# Altium integrated library TI Power Management Step-Down Regulator.IntLib: 531 symbols (part 25 of 32)
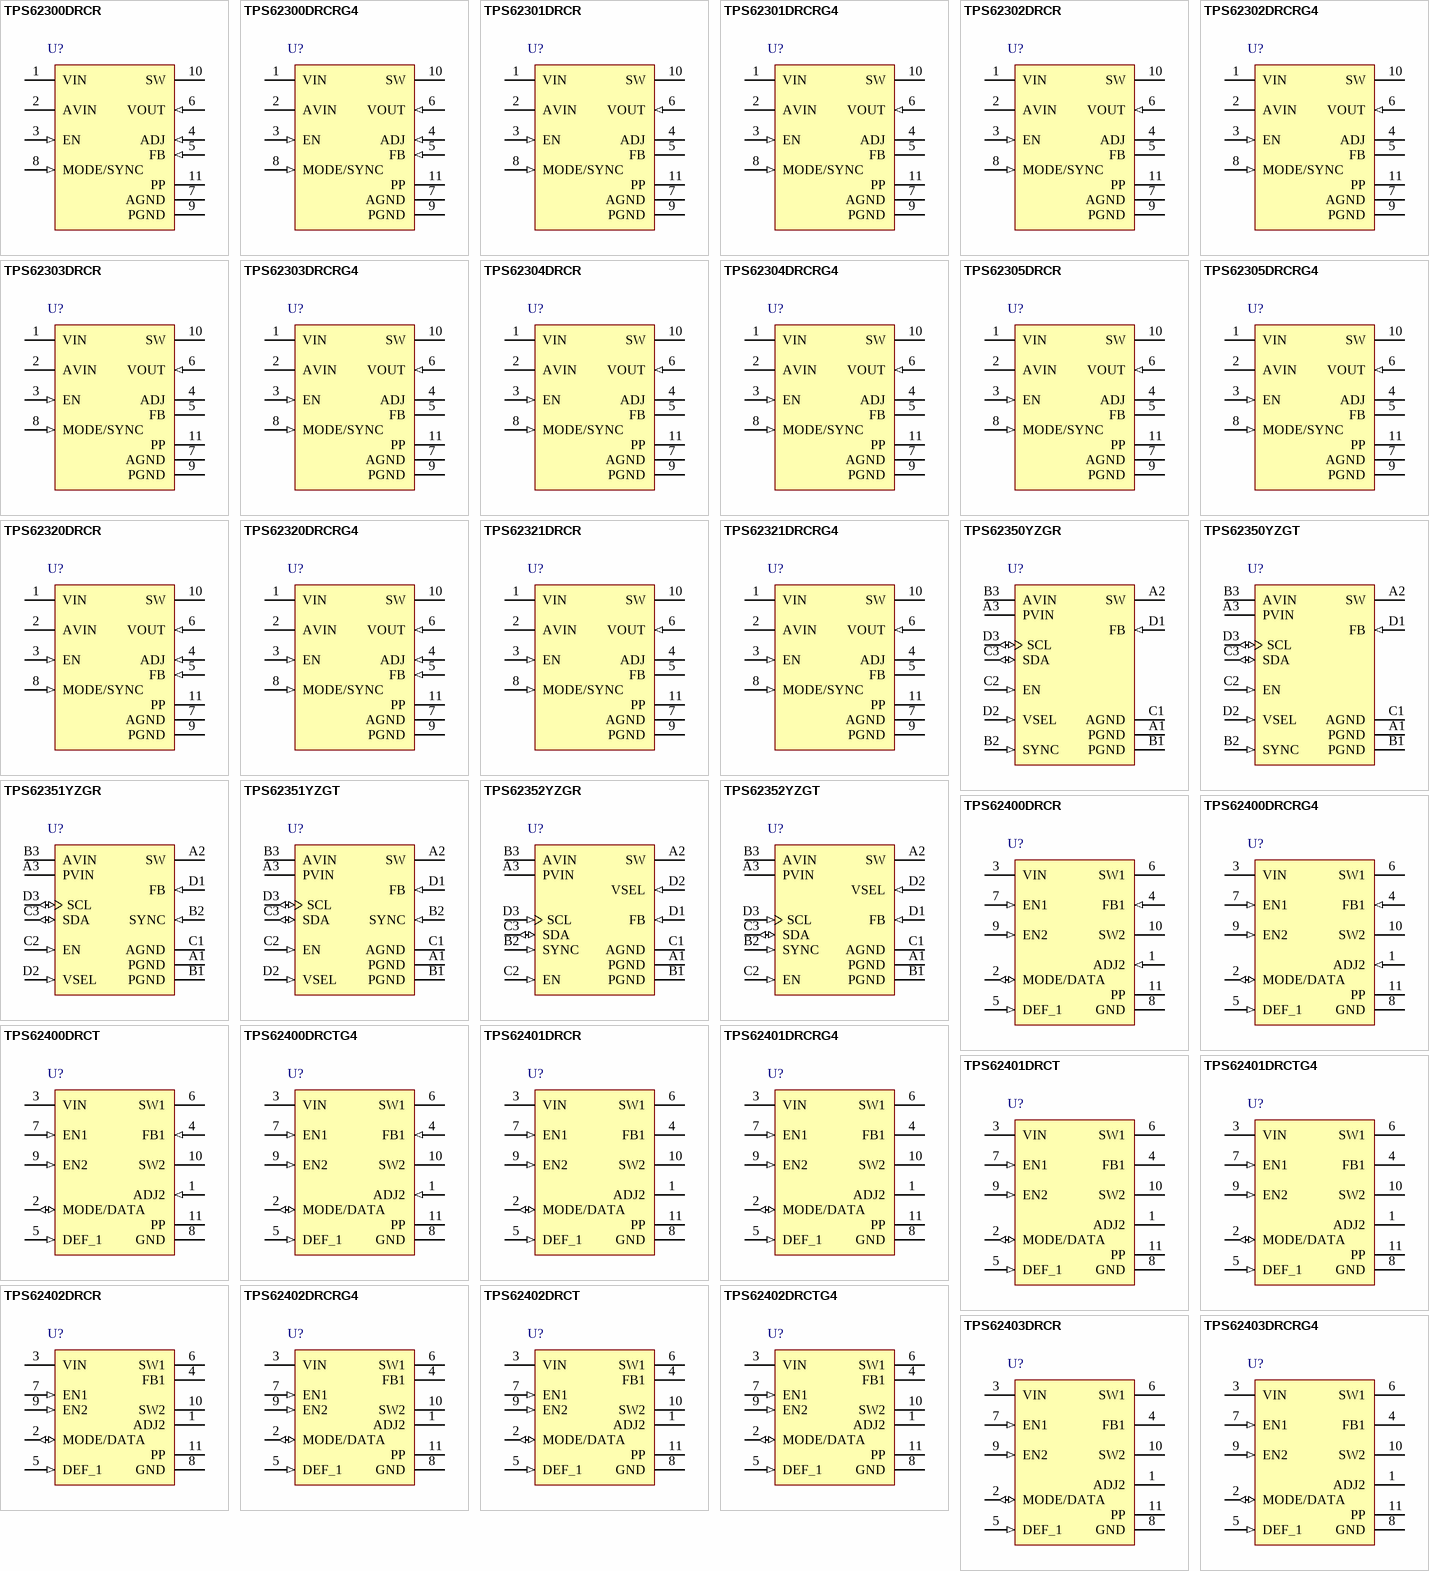
[diagram p42: symbols TPS62300DRCR to TPS62403DRCRG4]

## TPS62401DRCR
designator U?
Buck Step Down Regulator with 2.5 to 6 V Input and 1.1 to 1.575 V Output, -40 to 85 degC, 10-Pin SON (DRC), Green (RoHS & no Sb/Br); PartNumber: TPS62401DRCR; Manufacturer: Texas Instruments; Duty Cycle(Max)(%): 100; Dynamic Voltage Scaling: TRUE; Iout(Max)(A): 0.4; Iout2(Max)(A): 0.6; Iq(Typ)(mA): 0.032; Rating: Catalog; Regulated Outputs(#): 2; SubFamily: Step-Down Regulator; Switch Current Limit(Typ)(A): 1; Vin(Max)(V): 6; Vin(Min)(V): 2.5; Vout(Max)(V): 1.575; Vout(Min)(V): 1.1; Vout2(Max)(V): 2.8; DatasheetVersion: SLVS681E; PackageVersion: revL, Sep-2011; PackageReference: DRC10-2400X1650TP; PackageDescription: 10-Pin Plastic Small Outline No-Lead, 3 x 3 x 1 mm Body, 0.5 mm Pitch, Exposed Pad; Supplier 1: Digi-Key; Supplier Part Number 1: TPS62401DRCR-ND; Supplier 2: Newark; Supplier Part Number 2: 10M0639; Supplier 3: Mouser; Supplier Part Number 3: 595-TPS62401DRCR; Eco-Plan: Green (RoHS & no Sb/Br); Synchronous Rectification: TRUE; Topology: Buck; Vout2(Min)(V): 2.8; Mounting Technology: Surface Mount; ComponentLink1Description: Datasheet; ComponentLink1URL: http://www.ti.com/general/docs/lit/getliterature.tsp?genericPartNumber=TPS62401&fileType=pdf; ComponentLink2Description: URL Link1; ComponentLink2URL: Samples URL:http://www.ti.com/product/tps62401#samples
footprint DRC10-2400X1650TP (SON, 10-Leads, Body 3x3mm, Pitch 0.5mm, Thermal Pad 2.4x1.65mm, TI Recommended)
pins: 1 ADJ2 "Input to adjust output voltage of converter 2. In adjustable version (TPS62400) connect a external resistor divider between VOUT2, this pin and GND to set output voltage between 0.6V and VIN. At fixed output voltage version (See Datasheet)", 2 MODE/DATA (io) "This Pin has 2 functions: 1. Operation Mode selection: With low level, Power Save Mode is enabled where the device operates in PFM mode at light loads and enters automatically PWM mode at heavy loads. Pulling this PIN to (See Datasheet)", 3 VIN (power) "Supply voltage, connect to VBAT, 2.5V to 6V", 4 FB1 "Direct feedback voltage sense input of converter 1, connect directly to Vout 1. An internal feed forward capacitor is connected between this pin and the error amplifier. In case of fixed output voltage versions or when the (See Datasheet)", 5 DEF_1 (in) "This pin defines the output voltage of converter 1. The pin acts either as analog input for output voltage setting via external resistors (TPS62400), or digital input to select between two fixed default output voltages (See Datasheet)", 6 SW1 (power) "Switch Pin of Converter1. Connect to Inductor", 7 EN1 (in) "Enable Input for Converter1, active high", 8 GND (power) "GND for both converters; connect this pin to the PowerPAD", 9 EN2 (in) "Enable Input for Converter 2, active high", 10 SW2 (power) "Switch Pin of Converter 2. Connect to Inductor.", 11 PP (power) "Connect to GND"

## TPS62401DRCRG4
designator U?
Buck Step Down Regulator with 2.5 to 6 V Input and 1.1 to 1.575 V Output, -40 to 85 degC, 10-Pin SON (DRC), Green (RoHS & no Sb/Br); PartNumber: TPS62401DRCRG4; Manufacturer: Texas Instruments; Duty Cycle(Max)(%): 100; Dynamic Voltage Scaling: TRUE; Iout(Max)(A): 0.4; Iout2(Max)(A): 0.6; Iq(Typ)(mA): 0.032; Rating: Catalog; Regulated Outputs(#): 2; SubFamily: Step-Down Regulator; Switch Current Limit(Typ)(A): 1; Vin(Max)(V): 6; Vin(Min)(V): 2.5; Vout(Max)(V): 1.575; Vout(Min)(V): 1.1; Vout2(Max)(V): 2.8; DatasheetVersion: SLVS681E; PackageVersion: revL, Sep-2011; PackageReference: DRC10-2400X1650TP; PackageDescription: 10-Pin Plastic Small Outline No-Lead, 3 x 3 x 1 mm Body, 0.5 mm Pitch, Exposed Pad; Supplier 1: Digi-Key; Supplier Part Number 1: TPS62401DRCRG4-ND; Supplier 2: Newark; Supplier Part Number 2: 14M2502; Supplier 3: Mouser; Supplier Part Number 3: 595-TPS62401DRCRG4; Eco-Plan: Green (RoHS & no Sb/Br); Synchronous Rectification: TRUE; Topology: Buck; Vout2(Min)(V): 2.8; Mounting Technology: Surface Mount; ComponentLink1Description: Datasheet; ComponentLink1URL: http://www.ti.com/general/docs/lit/getliterature.tsp?genericPartNumber=TPS62401&fileType=pdf; ComponentLink2Description: URL Link1; ComponentLink2URL: Samples URL:http://www.ti.com/product/tps62401#samples
footprint DRC10-2400X1650TP (SON, 10-Leads, Body 3x3mm, Pitch 0.5mm, Thermal Pad 2.4x1.65mm, TI Recommended)
pins: 1 ADJ2 "Input to adjust output voltage of converter 2. In adjustable version (TPS62400) connect a external resistor divider between VOUT2, this pin and GND to set output voltage between 0.6V and VIN. At fixed output voltage version (See Datasheet)", 2 MODE/DATA (io) "This Pin has 2 functions: 1. Operation Mode selection: With low level, Power Save Mode is enabled where the device operates in PFM mode at light loads and enters automatically PWM mode at heavy loads. Pulling this PIN to (See Datasheet)", 3 VIN (power) "Supply voltage, connect to VBAT, 2.5V to 6V", 4 FB1 "Direct feedback voltage sense input of converter 1, connect directly to Vout 1. An internal feed forward capacitor is connected between this pin and the error amplifier. In case of fixed output voltage versions or when the (See Datasheet)", 5 DEF_1 (in) "This pin defines the output voltage of converter 1. The pin acts either as analog input for output voltage setting via external resistors (TPS62400), or digital input to select between two fixed default output voltages (See Datasheet)", 6 SW1 (power) "Switch Pin of Converter1. Connect to Inductor", 7 EN1 (in) "Enable Input for Converter1, active high", 8 GND (power) "GND for both converters; connect this pin to the PowerPAD", 9 EN2 (in) "Enable Input for Converter 2, active high", 10 SW2 (power) "Switch Pin of Converter 2. Connect to Inductor.", 11 PP (power) "Connect to GND"

## TPS62401DRCT
designator U?
Buck Step Down Regulator with 2.5 to 6 V Input and 1.1 to 1.575 V Output, -40 to 85 degC, 10-Pin SON (DRC), Green (RoHS & no Sb/Br); PartNumber: TPS62401DRCT; Manufacturer: Texas Instruments; Duty Cycle(Max)(%): 100; Dynamic Voltage Scaling: TRUE; Iout(Max)(A): 0.4; Iout2(Max)(A): 0.6; Iq(Typ)(mA): 0.032; Rating: Catalog; Regulated Outputs(#): 2; SubFamily: Step-Down Regulator; Switch Current Limit(Typ)(A): 1; Vin(Max)(V): 6; Vin(Min)(V): 2.5; Vout(Max)(V): 1.575; Vout(Min)(V): 1.1; Vout2(Max)(V): 2.8; DatasheetVersion: SLVS681E; PackageVersion: revL, Sep-2011; PackageReference: DRC10-2400X1650TP; PackageDescription: 10-Pin Plastic Small Outline No-Lead, 3 x 3 x 1 mm Body, 0.5 mm Pitch, Exposed Pad; Supplier 1: Digi-Key; Supplier Part Number 1: 296-20691-2-ND; Supplier 2: Digi-Key; Supplier Part Number 2: 296-20691-1-ND; Supplier 3: Digi-Key; Supplier Part Number 3: 296-20691-6-ND; Supplier 4: Newark; Supplier Part Number 4: 10M0640; Supplier 5: Mouser; Supplier Part Number 5: 595-TPS62401DRCT; Eco-Plan: Green (RoHS & no Sb/Br); Synchronous Rectification: TRUE; Topology: Buck; Vout2(Min)(V): 2.8; Mounting Technology: Surface Mount; ComponentLink1Description: Datasheet; ComponentLink1URL: http://www.ti.com/general/docs/lit/getliterature.tsp?genericPartNumber=TPS62401&fileType=pdf; ComponentLink2Description: URL Link1; ComponentLink2URL: Samples URL:http://www.ti.com/product/tps62401#samples
footprint DRC10-2400X1650TP (SON, 10-Leads, Body 3x3mm, Pitch 0.5mm, Thermal Pad 2.4x1.65mm, TI Recommended)
pins: 1 ADJ2 "Input to adjust output voltage of converter 2. In adjustable version (TPS62400) connect a external resistor divider between VOUT2, this pin and GND to set output voltage between 0.6V and VIN. At fixed output voltage version (See Datasheet)", 2 MODE/DATA (io) "This Pin has 2 functions: 1. Operation Mode selection: With low level, Power Save Mode is enabled where the device operates in PFM mode at light loads and enters automatically PWM mode at heavy loads. Pulling this PIN to (See Datasheet)", 3 VIN (power) "Supply voltage, connect to VBAT, 2.5V to 6V", 4 FB1 "Direct feedback voltage sense input of converter 1, connect directly to Vout 1. An internal feed forward capacitor is connected between this pin and the error amplifier. In case of fixed output voltage versions or when the (See Datasheet)", 5 DEF_1 (in) "This pin defines the output voltage of converter 1. The pin acts either as analog input for output voltage setting via external resistors (TPS62400), or digital input to select between two fixed default output voltages (See Datasheet)", 6 SW1 (power) "Switch Pin of Converter1. Connect to Inductor", 7 EN1 (in) "Enable Input for Converter1, active high", 8 GND (power) "GND for both converters; connect this pin to the PowerPAD", 9 EN2 (in) "Enable Input for Converter 2, active high", 10 SW2 (power) "Switch Pin of Converter 2. Connect to Inductor.", 11 PP (power) "Connect to GND"

## TPS62401DRCTG4
designator U?
Buck Step Down Regulator with 2.5 to 6 V Input and 1.1 to 1.575 V Output, -40 to 85 degC, 10-Pin SON (DRC), Green (RoHS & no Sb/Br); PartNumber: TPS62401DRCTG4; Manufacturer: Texas Instruments; Duty Cycle(Max)(%): 100; Dynamic Voltage Scaling: TRUE; Iout(Max)(A): 0.4; Iout2(Max)(A): 0.6; Iq(Typ)(mA): 0.032; Rating: Catalog; Regulated Outputs(#): 2; SubFamily: Step-Down Regulator; Switch Current Limit(Typ)(A): 1; Vin(Max)(V): 6; Vin(Min)(V): 2.5; Vout(Max)(V): 1.575; Vout(Min)(V): 1.1; Vout2(Max)(V): 2.8; DatasheetVersion: SLVS681E; PackageVersion: revL, Sep-2011; PackageReference: DRC10-2400X1650TP; PackageDescription: 10-Pin Plastic Small Outline No-Lead, 3 x 3 x 1 mm Body, 0.5 mm Pitch, Exposed Pad; Supplier 1: Digi-Key; Supplier Part Number 1: TPS62401DRCTG4-ND; Supplier 2: Farnell; Supplier Part Number 2: 1329598; Supplier 3: Newark; Supplier Part Number 3: 14M2503; Supplier 4: Mouser; Supplier Part Number 4: 595-TPS62401DRCTG4; Eco-Plan: Green (RoHS & no Sb/Br); Synchronous Rectification: TRUE; Topology: Buck; Vout2(Min)(V): 2.8; Mounting Technology: Surface Mount; ComponentLink1Description: Datasheet; ComponentLink1URL: http://www.ti.com/general/docs/lit/getliterature.tsp?genericPartNumber=TPS62401&fileType=pdf; ComponentLink2Description: URL Link1; ComponentLink2URL: Samples URL:http://www.ti.com/product/tps54611#samples
footprint DRC10-2400X1650TP (SON, 10-Leads, Body 3x3mm, Pitch 0.5mm, Thermal Pad 2.4x1.65mm, TI Recommended)
pins: 1 ADJ2 "Input to adjust output voltage of converter 2. In adjustable version (TPS62400) connect a external resistor divider between VOUT2, this pin and GND to set output voltage between 0.6V and VIN. At fixed output voltage version (See Datasheet)", 2 MODE/DATA (io) "This Pin has 2 functions: 1. Operation Mode selection: With low level, Power Save Mode is enabled where the device operates in PFM mode at light loads and enters automatically PWM mode at heavy loads. Pulling this PIN to (See Datasheet)", 3 VIN (power) "Supply voltage, connect to VBAT, 2.5V to 6V", 4 FB1 "Direct feedback voltage sense input of converter 1, connect directly to Vout 1. An internal feed forward capacitor is connected between this pin and the error amplifier. In case of fixed output voltage versions or when the (See Datasheet)", 5 DEF_1 (in) "This pin defines the output voltage of converter 1. The pin acts either as analog input for output voltage setting via external resistors (TPS62400), or digital input to select between two fixed default output voltages (See Datasheet)", 6 SW1 (power) "Switch Pin of Converter1. Connect to Inductor", 7 EN1 (in) "Enable Input for Converter1, active high", 8 GND (power) "GND for both converters; connect this pin to the PowerPAD", 9 EN2 (in) "Enable Input for Converter 2, active high", 10 SW2 (power) "Switch Pin of Converter 2. Connect to Inductor.", 11 PP (power) "Connect to GND"

## TPS62402DRCR
designator U?
Buck Step Down Regulator with 2.5 to 6 V Input and 1.2 to 1.8 V Output, -40 to 85 degC, 10-Pin SON (DRC), Green (RoHS & no Sb/Br); PartNumber: TPS62402DRCR; Manufacturer: Texas Instruments; Duty Cycle(Max)(%): 100; Dynamic Voltage Scaling: TRUE; Iout(Max)(A): 0.4; Iout2(Max)(A): 0.6; Iq(Typ)(mA): 0.032; Rating: Catalog; Regulated Outputs(#): 2; SubFamily: Step-Down Regulator; Switch Current Limit(Typ)(A): 1; Vin(Max)(V): 6; Vin(Min)(V): 2.5; Vout(Max)(V): 1.8; Vout(Min)(V): 1.2; Vout2(Max)(V): 3.3; DatasheetVersion: SLVS681E; PackageVersion: revL, Sep-2011; PackageReference: DRC10-2400X1650TP; PackageDescription: 10-Pin Plastic Small Outline No-Lead, 3 x 3 x 1 mm Body, 0.5 mm Pitch, Exposed Pad; Supplier 1: Digi-Key; Supplier Part Number 1: TPS62402DRCR-ND; Supplier 2: Newark; Supplier Part Number 2: 31M0457; Supplier 3: Mouser; Supplier Part Number 3: 595-TPS62402DRCR; Eco-Plan: Green (RoHS & no Sb/Br); Synchronous Rectification: TRUE; Topology: Buck; Vout2(Min)(V): 3.3; Mounting Technology: Surface Mount; ComponentLink1Description: Datasheet; ComponentLink1URL: http://www.ti.com/general/docs/lit/getliterature.tsp?genericPartNumber=TPS62402&fileType=pdf; ComponentLink2Description: URL Link1; ComponentLink2URL: Samples URL:http://www.ti.com/product/tps62402#samples
footprint DRC10-2400X1650TP (SON, 10-Leads, Body 3x3mm, Pitch 0.5mm, Thermal Pad 2.4x1.65mm, TI Recommended)
pins: 1 ADJ2 "Input to adjust output voltage of converter 2. In adjustable version (TPS62400) connect a external resistor divider between VOUT2, this pin and GND to set output voltage between 0.6V and VIN. At fixed output voltage version (See Datasheet)", 2 MODE/DATA (io) "This Pin has 2 functions: 1. Operation Mode selection: With low level, Power Save Mode is enabled where the device operates in PFM mode at light loads and enters automatically PWM mode at heavy loads. Pulling this PIN to (See Datasheet)", 3 VIN (power) "Supply voltage, connect to VBAT, 2.5V to 6V", 4 FB1 "Direct feedback voltage sense input of converter 1, connect directly to Vout 1. An internal feed forward capacitor is connected between this pin and the error amplifier. In case of fixed output voltage versions or when the (See Datasheet)", 5 DEF_1 (in) "This pin defines the output voltage of converter 1. The pin acts either as analog input for output voltage setting via external resistors (TPS62400), or digital input to select between two fixed default output voltages (See Datasheet)", 6 SW1 (power) "Switch Pin of Converter1. Connect to Inductor", 7 EN1 (in) "Enable Input for Converter1, active high", 8 GND (power) "GND for both converters; connect this pin to the PowerPAD", 9 EN2 (in) "Enable Input for Converter 2, active high", 10 SW2 (power) "Switch Pin of Converter 2. Connect to Inductor.", 11 PP (power) "Connect to GND"

## TPS62402DRCRG4
designator U?
Buck Step Down Regulator with 2.5 to 6 V Input and 1.2 to 1.8 V Output, -40 to 85 degC, 10-Pin SON (DRC), Green (RoHS & no Sb/Br); PartNumber: TPS62402DRCRG4; Manufacturer: Texas Instruments; Duty Cycle(Max)(%): 100; Dynamic Voltage Scaling: TRUE; Iout(Max)(A): 0.4; Iout2(Max)(A): 0.6; Iq(Typ)(mA): 0.032; Rating: Catalog; Regulated Outputs(#): 2; SubFamily: Step-Down Regulator; Switch Current Limit(Typ)(A): 1; Vin(Max)(V): 6; Vin(Min)(V): 2.5; Vout(Max)(V): 1.8; Vout(Min)(V): 1.2; Vout2(Max)(V): 3.3; DatasheetVersion: SLVS681E; PackageVersion: revL, Sep-2011; PackageReference: DRC10-2400X1650TP; PackageDescription: 10-Pin Plastic Small Outline No-Lead, 3 x 3 x 1 mm Body, 0.5 mm Pitch, Exposed Pad; Supplier 1: Digi-Key; Supplier Part Number 1: TPS62402DRCRG4-ND; Supplier 2: Newark; Supplier Part Number 2: 34M0190; Supplier 3: Mouser; Supplier Part Number 3: 595-TPS62402DRCRG4; Eco-Plan: Green (RoHS & no Sb/Br); Synchronous Rectification: TRUE; Topology: Buck; Vout2(Min)(V): 3.3; Mounting Technology: Surface Mount; ComponentLink1Description: Datasheet; ComponentLink1URL: http://www.ti.com/general/docs/lit/getliterature.tsp?genericPartNumber=TPS62402&fileType=pdf; ComponentLink2Description: URL Link1; ComponentLink2URL: Samples URL:http://www.ti.com/product/tps62402#samples
footprint DRC10-2400X1650TP (SON, 10-Leads, Body 3x3mm, Pitch 0.5mm, Thermal Pad 2.4x1.65mm, TI Recommended)
pins: 1 ADJ2 "Input to adjust output voltage of converter 2. In adjustable version (TPS62400) connect a external resistor divider between VOUT2, this pin and GND to set output voltage between 0.6V and VIN. At fixed output voltage version (See Datasheet)", 2 MODE/DATA (io) "This Pin has 2 functions: 1. Operation Mode selection: With low level, Power Save Mode is enabled where the device operates in PFM mode at light loads and enters automatically PWM mode at heavy loads. Pulling this PIN to (See Datasheet)", 3 VIN (power) "Supply voltage, connect to VBAT, 2.5V to 6V", 4 FB1 "Direct feedback voltage sense input of converter 1, connect directly to Vout 1. An internal feed forward capacitor is connected between this pin and the error amplifier. In case of fixed output voltage versions or when the (See Datasheet)", 5 DEF_1 (in) "This pin defines the output voltage of converter 1. The pin acts either as analog input for output voltage setting via external resistors (TPS62400), or digital input to select between two fixed default output voltages (See Datasheet)", 6 SW1 (power) "Switch Pin of Converter1. Connect to Inductor", 7 EN1 (in) "Enable Input for Converter1, active high", 8 GND (power) "GND for both converters; connect this pin to the PowerPAD", 9 EN2 (in) "Enable Input for Converter 2, active high", 10 SW2 (power) "Switch Pin of Converter 2. Connect to Inductor.", 11 PP (power) "Connect to GND"

## TPS62402DRCT
designator U?
Buck Step Down Regulator with 2.5 to 6 V Input and 1.2 to 1.8 V Output, -40 to 85 degC, 10-Pin SON (DRC), Green (RoHS & no Sb/Br); PartNumber: TPS62402DRCT; Manufacturer: Texas Instruments; Duty Cycle(Max)(%): 100; Dynamic Voltage Scaling: TRUE; Iout(Max)(A): 0.4; Iout2(Max)(A): 0.6; Iq(Typ)(mA): 0.032; Rating: Catalog; Regulated Outputs(#): 2; SubFamily: Step-Down Regulator; Switch Current Limit(Typ)(A): 1; Vin(Max)(V): 6; Vin(Min)(V): 2.5; Vout(Max)(V): 1.8; Vout(Min)(V): 1.2; Vout2(Max)(V): 3.3; DatasheetVersion: SLVS681E; PackageVersion: revL, Sep-2011; PackageReference: DRC10-2400X1650TP; PackageDescription: 10-Pin Plastic Small Outline No-Lead, 3 x 3 x 1 mm Body, 0.5 mm Pitch, Exposed Pad; Supplier 1: Digi-Key; Supplier Part Number 1: 296-21646-2-ND; Supplier 2: Digi-Key; Supplier Part Number 2: 296-21646-1-ND; Supplier 3: Digi-Key; Supplier Part Number 3: 296-21646-6-ND; Supplier 4: Farnell; Supplier Part Number 4: 1755473RL; Supplier 5: Farnell; Supplier Part Number 5: 1755473; Supplier 6: Newark; Supplier Part Number 6: 34R9227; Supplier 7: Newark; Supplier Part Number 7: 34M0191; Supplier 8: Mouser; Supplier Part Number 8: 595-TPS62402DRCT; Eco-Plan: Green (RoHS & no Sb/Br); Synchronous Rectification: TRUE; Topology: Buck; Vout2(Min)(V): 3.3; Mounting Technology: Surface Mount; ComponentLink1Description: Datasheet; ComponentLink1URL: http://www.ti.com/general/docs/lit/getliterature.tsp?genericPartNumber=TPS62402&fileType=pdf; ComponentLink2Description: URL Link1; ComponentLink2URL: Samples URL:http://www.ti.com/product/tps62402#samples
footprint DRC10-2400X1650TP (SON, 10-Leads, Body 3x3mm, Pitch 0.5mm, Thermal Pad 2.4x1.65mm, TI Recommended)
pins: 1 ADJ2 "Input to adjust output voltage of converter 2. In adjustable version (TPS62400) connect a external resistor divider between VOUT2, this pin and GND to set output voltage between 0.6V and VIN. At fixed output voltage version (See Datasheet)", 2 MODE/DATA (io) "This Pin has 2 functions: 1. Operation Mode selection: With low level, Power Save Mode is enabled where the device operates in PFM mode at light loads and enters automatically PWM mode at heavy loads. Pulling this PIN to (See Datasheet)", 3 VIN (power) "Supply voltage, connect to VBAT, 2.5V to 6V", 4 FB1 "Direct feedback voltage sense input of converter 1, connect directly to Vout 1. An internal feed forward capacitor is connected between this pin and the error amplifier. In case of fixed output voltage versions or when the (See Datasheet)", 5 DEF_1 (in) "This pin defines the output voltage of converter 1. The pin acts either as analog input for output voltage setting via external resistors (TPS62400), or digital input to select between two fixed default output voltages (See Datasheet)", 6 SW1 (power) "Switch Pin of Converter1. Connect to Inductor", 7 EN1 (in) "Enable Input for Converter1, active high", 8 GND (power) "GND for both converters; connect this pin to the PowerPAD", 9 EN2 (in) "Enable Input for Converter 2, active high", 10 SW2 (power) "Switch Pin of Converter 2. Connect to Inductor.", 11 PP (power) "Connect to GND"

## TPS62402DRCTG4
designator U?
Buck Step Down Regulator with 2.5 to 6 V Input and 1.2 to 1.8 V Output, -40 to 85 degC, 10-Pin SON (DRC), Green (RoHS & no Sb/Br); PartNumber: TPS62402DRCTG4; Manufacturer: Texas Instruments; Duty Cycle(Max)(%): 100; Dynamic Voltage Scaling: TRUE; Iout(Max)(A): 0.4; Iout2(Max)(A): 0.6; Iq(Typ)(mA): 0.032; Rating: Catalog; Regulated Outputs(#): 2; SubFamily: Step-Down Regulator; Switch Current Limit(Typ)(A): 1; Vin(Max)(V): 6; Vin(Min)(V): 2.5; Vout(Max)(V): 1.8; Vout(Min)(V): 1.2; Vout2(Max)(V): 3.3; DatasheetVersion: SLVS681E; PackageVersion: revL, Sep-2011; PackageReference: DRC10-2400X1650TP; PackageDescription: 10-Pin Plastic Small Outline No-Lead, 3 x 3 x 1 mm Body, 0.5 mm Pitch, Exposed Pad; Supplier 1: Digi-Key; Supplier Part Number 1: TPS62402DRCTG4-ND; Supplier 2: Newark; Supplier Part Number 2: 34M0192; Supplier 3: Mouser; Supplier Part Number 3: 595-TPS62402DRCTG4; Eco-Plan: Green (RoHS & no Sb/Br); Synchronous Rectification: TRUE; Topology: Buck; Vout2(Min)(V): 3.3; Mounting Technology: Surface Mount; ComponentLink1Description: Datasheet; ComponentLink1URL: http://www.ti.com/general/docs/lit/getliterature.tsp?genericPartNumber=TPS62402&fileType=pdf; ComponentLink2Description: URL Link1; ComponentLink2URL: Samples URL:http://www.ti.com/product/tps54611#samples
footprint DRC10-2400X1650TP (SON, 10-Leads, Body 3x3mm, Pitch 0.5mm, Thermal Pad 2.4x1.65mm, TI Recommended)
pins: 1 ADJ2 "Input to adjust output voltage of converter 2. In adjustable version (TPS62400) connect a external resistor divider between VOUT2, this pin and GND to set output voltage between 0.6V and VIN. At fixed output voltage version (See Datasheet)", 2 MODE/DATA (io) "This Pin has 2 functions: 1. Operation Mode selection: With low level, Power Save Mode is enabled where the device operates in PFM mode at light loads and enters automatically PWM mode at heavy loads. Pulling this PIN to (See Datasheet)", 3 VIN (power) "Supply voltage, connect to VBAT, 2.5V to 6V", 4 FB1 "Direct feedback voltage sense input of converter 1, connect directly to Vout 1. An internal feed forward capacitor is connected between this pin and the error amplifier. In case of fixed output voltage versions or when the (See Datasheet)", 5 DEF_1 (in) "This pin defines the output voltage of converter 1. The pin acts either as analog input for output voltage setting via external resistors (TPS62400), or digital input to select between two fixed default output voltages (See Datasheet)", 6 SW1 (power) "Switch Pin of Converter1. Connect to Inductor", 7 EN1 (in) "Enable Input for Converter1, active high", 8 GND (power) "GND for both converters; connect this pin to the PowerPAD", 9 EN2 (in) "Enable Input for Converter 2, active high", 10 SW2 (power) "Switch Pin of Converter 2. Connect to Inductor.", 11 PP (power) "Connect to GND"

## TPS62403DRCR
designator U?
Buck Step Down Regulator with 2.5 to 6 V Input and 1.1 to 1.575 V Output, -40 to 85 degC, 10-Pin SON (DRC), Green (RoHS & no Sb/Br); PartNumber: TPS62403DRCR; Manufacturer: Texas Instruments; Duty Cycle(Max)(%): 100; Dynamic Voltage Scaling: TRUE; Iout(Max)(A): 0.4; Iout2(Max)(A): 0.6; Iq(Typ)(mA): 0.032; Rating: Catalog; Regulated Outputs(#): 2; SubFamily: Step-Down Regulator; Switch Current Limit(Typ)(A): 1; Vin(Max)(V): 6; Vin(Min)(V): 2.5; Vout(Max)(V): 1.575; Vout(Min)(V): 1.1; Vout2(Max)(V): 2.8; DatasheetVersion: SLVS681E; PackageVersion: revL, Sep-2011; PackageReference: DRC10-2400X1650TP; PackageDescription: 10-Pin Plastic Small Outline No-Lead, 3 x 3 x 1 mm Body, 0.5 mm Pitch, Exposed Pad; Supplier 1: Digi-Key; Supplier Part Number 1: TPS62403DRCR-ND; Supplier 2: Newark; Supplier Part Number 2: 27M1090; Supplier 3: Mouser; Supplier Part Number 3: 595-TPS62403DRCR; Eco-Plan: Green (RoHS & no Sb/Br); Topology: Buck; Vout2(Min)(V): 2.8; Mounting Technology: Surface Mount; ComponentLink1Description: Datasheet; ComponentLink1URL: http://www.ti.com/general/docs/lit/getliterature.tsp?genericPartNumber=TPS62403&fileType=pdf; ComponentLink2Description: URL Link1; ComponentLink2URL: Samples URL:http://www.ti.com/product/tps62403#samples
footprint DRC10-2400X1650TP (SON, 10-Leads, Body 3x3mm, Pitch 0.5mm, Thermal Pad 2.4x1.65mm, TI Recommended)
pins: 1 ADJ2 "Input to adjust output voltage of converter 2. In adjustable version (TPS62400) connect a external resistor divider between VOUT2, this pin and GND to set output voltage between 0.6V and VIN. At fixed output voltage version (See Datasheet)", 2 MODE/DATA (io) "This Pin has 2 functions: 1. Operation Mode selection: With low level, Power Save Mode is enabled where the device operates in PFM mode at light loads and enters automatically PWM mode at heavy loads. Pulling this PIN to (See Datasheet)", 3 VIN (power) "Supply voltage, connect to VBAT, 2.5V to 6V", 4 FB1 "Direct feedback voltage sense input of converter 1, connect directly to Vout 1. An internal feed forward capacitor is connected between this pin and the error amplifier. In case of fixed output voltage versions or when the (See Datasheet)", 5 DEF_1 (in) "This pin defines the output voltage of converter 1. The pin acts either as analog input for output voltage setting via external resistors (TPS62400), or digital input to select between two fixed default output voltages (See Datasheet)", 6 SW1 (power) "Switch Pin of Converter1. Connect to Inductor", 7 EN1 (in) "Enable Input for Converter1, active high", 8 GND (power) "GND for both converters; connect this pin to the PowerPAD", 9 EN2 (in) "Enable Input for Converter 2, active high", 10 SW2 (power) "Switch Pin of Converter 2. Connect to Inductor.", 11 PP (power) "Connect to GND"

## TPS62403DRCRG4
designator U?
Buck Step Down Regulator with 2.5 to 6 V Input and 1.1 to 1.575 V Output, -40 to 85 degC, 10-Pin SON (DRC), Green (RoHS & no Sb/Br); PartNumber: TPS62403DRCRG4; Manufacturer: Texas Instruments; Duty Cycle(Max)(%): 100; Dynamic Voltage Scaling: TRUE; Iout(Max)(A): 0.4; Iout2(Max)(A): 0.6; Iq(Typ)(mA): 0.032; Rating: Catalog; Regulated Outputs(#): 2; SubFamily: Step-Down Regulator; Switch Current Limit(Typ)(A): 1; Vin(Max)(V): 6; Vin(Min)(V): 2.5; Vout(Max)(V): 1.575; Vout(Min)(V): 1.1; Vout2(Max)(V): 2.8; DatasheetVersion: SLVS681E; PackageVersion: revL, Sep-2011; PackageReference: DRC10-2400X1650TP; PackageDescription: 10-Pin Plastic Small Outline No-Lead, 3 x 3 x 1 mm Body, 0.5 mm Pitch, Exposed Pad; Supplier 1: Digi-Key; Supplier Part Number 1: TPS62403DRCRG4-ND; Supplier 2: Newark; Supplier Part Number 2: 28M7822; Supplier 3: Mouser; Supplier Part Number 3: 595-TPS62403DRCRG4; Eco-Plan: Green (RoHS & no Sb/Br); Topology: Buck; Vout2(Min)(V): 2.8; Mounting Technology: Surface Mount; ComponentLink1Description: Datasheet; ComponentLink1URL: http://www.ti.com/general/docs/lit/getliterature.tsp?genericPartNumber=TPS62403&fileType=pdf; ComponentLink2Description: URL Link1; ComponentLink2URL: Samples URL:http://www.ti.com/product/tps62403#samples
footprint DRC10-2400X1650TP (SON, 10-Leads, Body 3x3mm, Pitch 0.5mm, Thermal Pad 2.4x1.65mm, TI Recommended)
pins: 1 ADJ2 "Input to adjust output voltage of converter 2. In adjustable version (TPS62400) connect a external resistor divider between VOUT2, this pin and GND to set output voltage between 0.6V and VIN. At fixed output voltage version (See Datasheet)", 2 MODE/DATA (io) "This Pin has 2 functions: 1. Operation Mode selection: With low level, Power Save Mode is enabled where the device operates in PFM mode at light loads and enters automatically PWM mode at heavy loads. Pulling this PIN to (See Datasheet)", 3 VIN (power) "Supply voltage, connect to VBAT, 2.5V to 6V", 4 FB1 "Direct feedback voltage sense input of converter 1, connect directly to Vout 1. An internal feed forward capacitor is connected between this pin and the error amplifier. In case of fixed output voltage versions or when the (See Datasheet)", 5 DEF_1 (in) "This pin defines the output voltage of converter 1. The pin acts either as analog input for output voltage setting via external resistors (TPS62400), or digital input to select between two fixed default output voltages (See Datasheet)", 6 SW1 (power) "Switch Pin of Converter1. Connect to Inductor", 7 EN1 (in) "Enable Input for Converter1, active high", 8 GND (power) "GND for both converters; connect this pin to the PowerPAD", 9 EN2 (in) "Enable Input for Converter 2, active high", 10 SW2 (power) "Switch Pin of Converter 2. Connect to Inductor.", 11 PP (power) "Connect to GND"

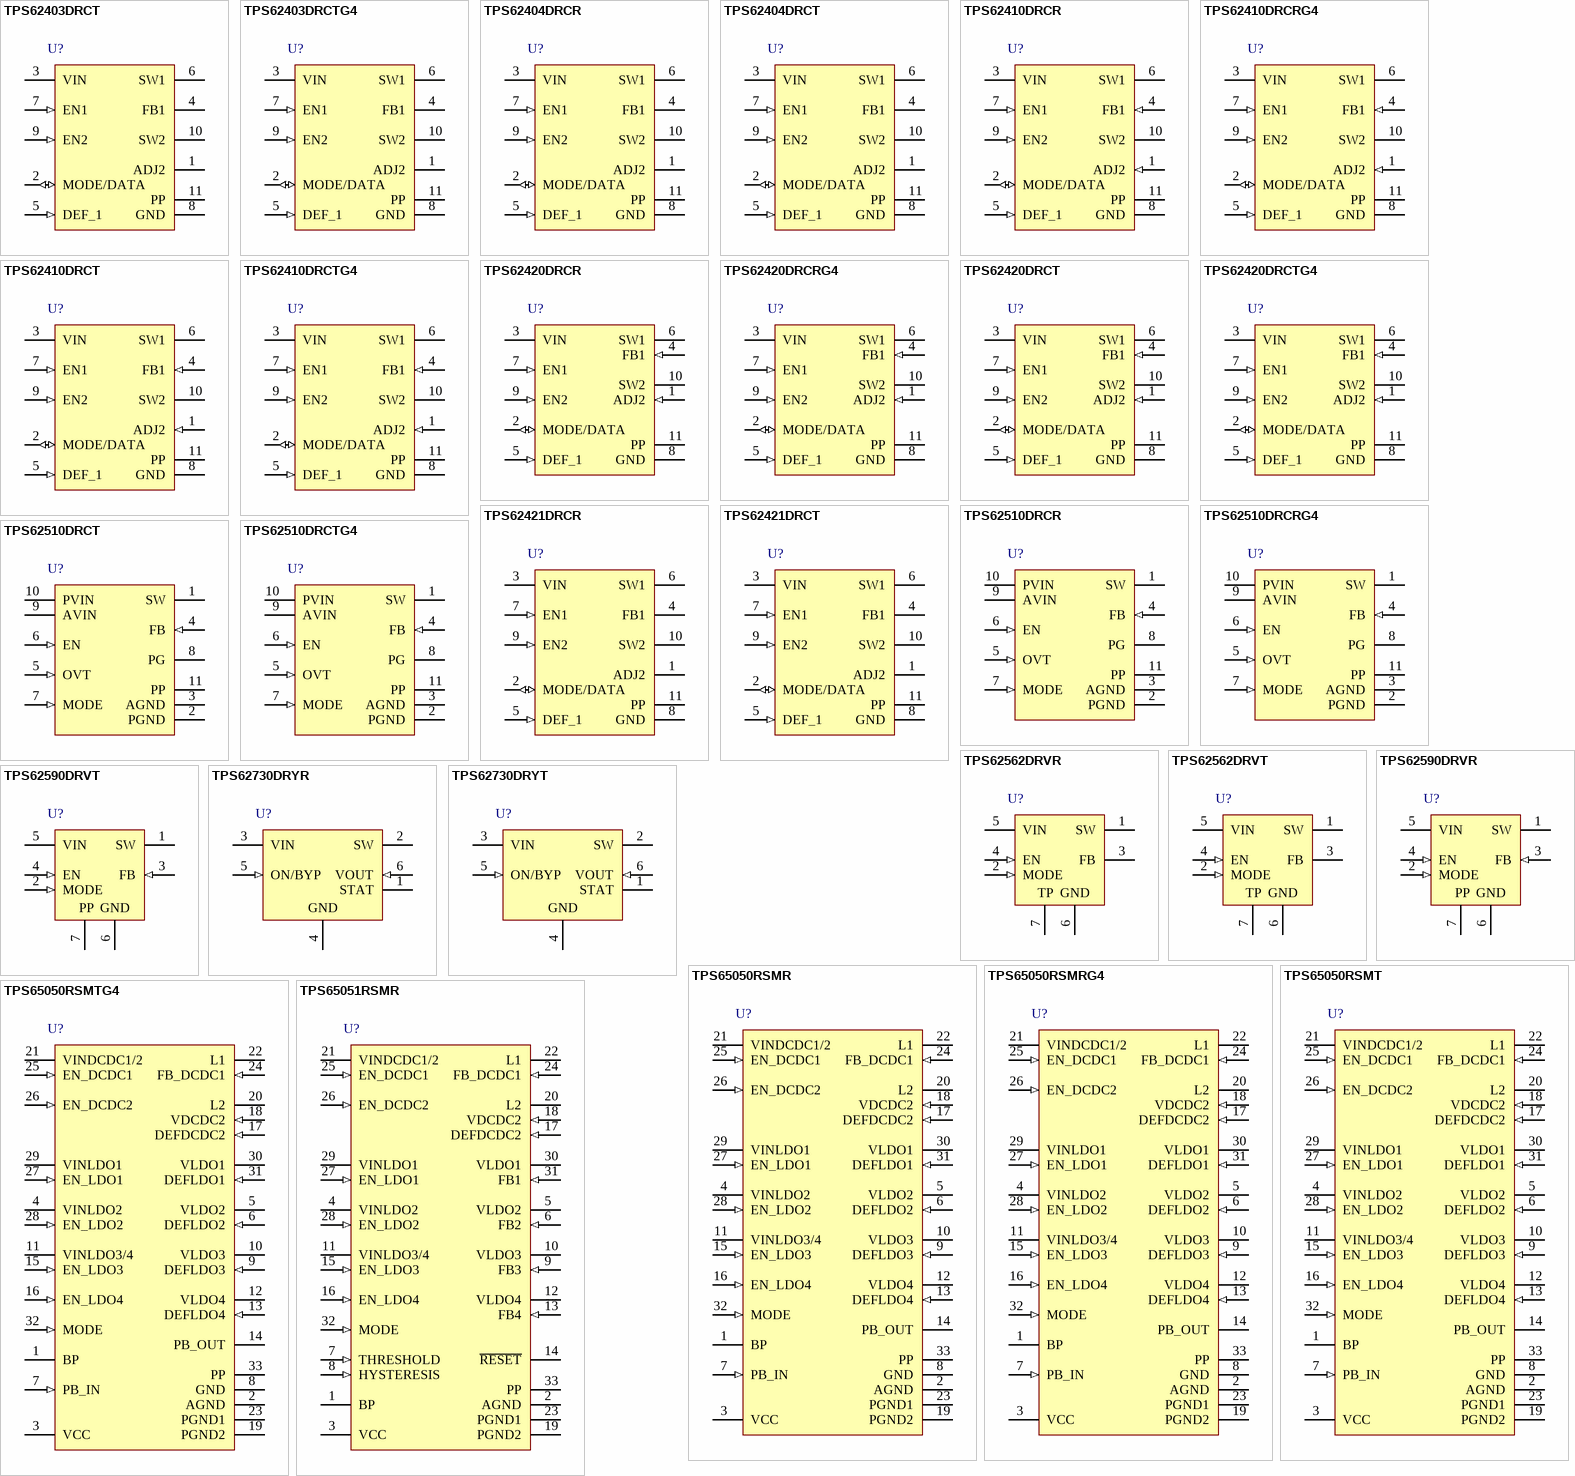
[diagram p13: symbols TPS62403DRCT to TPS65051RSMR]

## TPS62403DRCT
designator U?
Buck Step Down Regulator with 2.5 to 6 V Input and 1.1 to 1.575 V Output, -40 to 85 degC, 10-Pin SON (DRC), Green (RoHS & no Sb/Br); PartNumber: TPS62403DRCT; Manufacturer: Texas Instruments; Duty Cycle(Max)(%): 100; Dynamic Voltage Scaling: TRUE; Iout(Max)(A): 0.4; Iout2(Max)(A): 0.6; Iq(Typ)(mA): 0.032; Rating: Catalog; Regulated Outputs(#): 2; SubFamily: Step-Down Regulator; Switch Current Limit(Typ)(A): 1; Vin(Max)(V): 6; Vin(Min)(V): 2.5; Vout(Max)(V): 1.575; Vout(Min)(V): 1.1; Vout2(Max)(V): 2.8; DatasheetVersion: SLVS681E; PackageVersion: revL, Sep-2011; PackageReference: DRC10-2400X1650TP; PackageDescription: 10-Pin Plastic Small Outline No-Lead, 3 x 3 x 1 mm Body, 0.5 mm Pitch, Exposed Pad; Supplier 1: Digi-Key; Supplier Part Number 1: 296-21348-2-ND; Supplier 2: Digi-Key; Supplier Part Number 2: 296-21348-1-ND; Supplier 3: Digi-Key; Supplier Part Number 3: 296-21348-6-ND; Supplier 4: Newark; Supplier Part Number 4: 27M1091; Supplier 5: Mouser; Supplier Part Number 5: 595-TPS62403DRCT; Eco-Plan: Green (RoHS & no Sb/Br); Topology: Buck; Vout2(Min)(V): 2.8; Mounting Technology: Surface Mount; ComponentLink1Description: Datasheet; ComponentLink1URL: http://www.ti.com/general/docs/lit/getliterature.tsp?genericPartNumber=TPS62403&fileType=pdf; ComponentLink2Description: URL Link1; ComponentLink2URL: Samples URL:http://www.ti.com/product/tps62403#samples
footprint DRC10-2400X1650TP (SON, 10-Leads, Body 3x3mm, Pitch 0.5mm, Thermal Pad 2.4x1.65mm, TI Recommended)
pins: 1 ADJ2 "Input to adjust output voltage of converter 2. In adjustable version (TPS62400) connect a external resistor divider between VOUT2, this pin and GND to set output voltage between 0.6V and VIN. At fixed output voltage version (See Datasheet)", 2 MODE/DATA (io) "This Pin has 2 functions: 1. Operation Mode selection: With low level, Power Save Mode is enabled where the device operates in PFM mode at light loads and enters automatically PWM mode at heavy loads. Pulling this PIN to (See Datasheet)", 3 VIN (power) "Supply voltage, connect to VBAT, 2.5V to 6V", 4 FB1 "Direct feedback voltage sense input of converter 1, connect directly to Vout 1. An internal feed forward capacitor is connected between this pin and the error amplifier. In case of fixed output voltage versions or when the (See Datasheet)", 5 DEF_1 (in) "This pin defines the output voltage of converter 1. The pin acts either as analog input for output voltage setting via external resistors (TPS62400), or digital input to select between two fixed default output voltages (See Datasheet)", 6 SW1 (power) "Switch Pin of Converter1. Connect to Inductor", 7 EN1 (in) "Enable Input for Converter1, active high", 8 GND (power) "GND for both converters; connect this pin to the PowerPAD", 9 EN2 (in) "Enable Input for Converter 2, active high", 10 SW2 (power) "Switch Pin of Converter 2. Connect to Inductor.", 11 PP (power) "Connect to GND"

## TPS62403DRCTG4
designator U?
Buck Step Down Regulator with 2.5 to 6 V Input and 1.1 to 1.575 V Output, -40 to 85 degC, 10-Pin SON (DRC), Green (RoHS & no Sb/Br); PartNumber: TPS62403DRCTG4; Manufacturer: Texas Instruments; Duty Cycle(Max)(%): 100; Dynamic Voltage Scaling: TRUE; Iout(Max)(A): 0.4; Iout2(Max)(A): 0.6; Iq(Typ)(mA): 0.032; Rating: Catalog; Regulated Outputs(#): 2; SubFamily: Step-Down Regulator; Switch Current Limit(Typ)(A): 1; Vin(Max)(V): 6; Vin(Min)(V): 2.5; Vout(Max)(V): 1.575; Vout(Min)(V): 1.1; Vout2(Max)(V): 2.8; DatasheetVersion: SLVS681E; PackageVersion: revL, Sep-2011; PackageReference: DRC10-2400X1650TP; PackageDescription: 10-Pin Plastic Small Outline No-Lead, 3 x 3 x 1 mm Body, 0.5 mm Pitch, Exposed Pad; Supplier 1: Digi-Key; Supplier Part Number 1: TPS62403DRCTG4-ND; Supplier 2: Newark; Supplier Part Number 2: 27M1092; Supplier 3: Mouser; Supplier Part Number 3: 595-TPS62403DRCTG4; Eco-Plan: Green (RoHS & no Sb/Br); Topology: Buck; Vout2(Min)(V): 2.8; Mounting Technology: Surface Mount; ComponentLink1Description: Datasheet; ComponentLink1URL: http://www.ti.com/general/docs/lit/getliterature.tsp?genericPartNumber=TPS62403&fileType=pdf; ComponentLink2Description: URL Link1; ComponentLink2URL: Samples URL:http://www.ti.com/product/tps54611#samples
footprint DRC10-2400X1650TP (SON, 10-Leads, Body 3x3mm, Pitch 0.5mm, Thermal Pad 2.4x1.65mm, TI Recommended)
pins: 1 ADJ2 "Input to adjust output voltage of converter 2. In adjustable version (TPS62400) connect a external resistor divider between VOUT2, this pin and GND to set output voltage between 0.6V and VIN. At fixed output voltage version (See Datasheet)", 2 MODE/DATA (io) "This Pin has 2 functions: 1. Operation Mode selection: With low level, Power Save Mode is enabled where the device operates in PFM mode at light loads and enters automatically PWM mode at heavy loads. Pulling this PIN to (See Datasheet)", 3 VIN (power) "Supply voltage, connect to VBAT, 2.5V to 6V", 4 FB1 "Direct feedback voltage sense input of converter 1, connect directly to Vout 1. An internal feed forward capacitor is connected between this pin and the error amplifier. In case of fixed output voltage versions or when the (See Datasheet)", 5 DEF_1 (in) "This pin defines the output voltage of converter 1. The pin acts either as analog input for output voltage setting via external resistors (TPS62400), or digital input to select between two fixed default output voltages (See Datasheet)", 6 SW1 (power) "Switch Pin of Converter1. Connect to Inductor", 7 EN1 (in) "Enable Input for Converter1, active high", 8 GND (power) "GND for both converters; connect this pin to the PowerPAD", 9 EN2 (in) "Enable Input for Converter 2, active high", 10 SW2 (power) "Switch Pin of Converter 2. Connect to Inductor.", 11 PP (power) "Connect to GND"

## TPS62404DRCR
designator U?
Buck Step Down Regulator with 2.5 to 6 V Input and 1.2 to 1.9 V Output, -40 to 85 degC, 10-Pin SON (DRC), Green (RoHS & no Sb/Br); PartNumber: TPS62404DRCR; Manufacturer: Texas Instruments; Duty Cycle(Max)(%): 100; Dynamic Voltage Scaling: TRUE; Iout(Max)(A): 0.4; Iout2(Max)(A): 0.6; Iq(Typ)(mA): 0.032; Rating: Catalog; Regulated Outputs(#): 2; SubFamily: Step-Down Regulator; Switch Current Limit(Typ)(A): 1; Vin(Max)(V): 6; Vin(Min)(V): 2.5; Vout(Max)(V): 1.9; Vout(Min)(V): 1.2; Vout2(Max)(V): 3.3; DatasheetVersion: SLVS681E; PackageVersion: revL, Sep-2011; PackageReference: DRC10-2400X1650TP; PackageDescription: 10-Pin Plastic Small Outline No-Lead, 3 x 3 x 1 mm Body, 0.5 mm Pitch, Exposed Pad; Supplier 1: Digi-Key; Supplier Part Number 1: 296-27461-2-ND; Supplier 2: Digi-Key; Supplier Part Number 2: 296-27461-1-ND; Supplier 3: Digi-Key; Supplier Part Number 3: 296-27461-6-ND; Supplier 4: Newark; Supplier Part Number 4: 79R8572; Supplier 5: Mouser; Supplier Part Number 5: 595-TPS62404DRCR; Eco-Plan: Green (RoHS & no Sb/Br); Synchronous Rectification: TRUE; Topology: Buck; Vout2(Min)(V): 3.3; Mounting Technology: Surface Mount; ComponentLink1Description: Datasheet; ComponentLink1URL: http://www.ti.com/general/docs/lit/getliterature.tsp?genericPartNumber=TPS62404&fileType=pdf; ComponentLink2Description: URL Link1; ComponentLink2URL: Samples URL:http://www.ti.com/product/tps62404#samples
footprint DRC10-2400X1650TP (SON, 10-Leads, Body 3x3mm, Pitch 0.5mm, Thermal Pad 2.4x1.65mm, TI Recommended)
pins: 1 ADJ2 "Input to adjust output voltage of converter 2. In adjustable version (TPS62400) connect a external resistor divider between VOUT2, this pin and GND to set output voltage between 0.6V and VIN. At fixed output voltage version (See Datasheet)", 2 MODE/DATA (io) "This Pin has 2 functions: 1. Operation Mode selection: With low level, Power Save Mode is enabled where the device operates in PFM mode at light loads and enters automatically PWM mode at heavy loads. Pulling this PIN to (See Datasheet)", 3 VIN (power) "Supply voltage, connect to VBAT, 2.5V to 6V", 4 FB1 "Direct feedback voltage sense input of converter 1, connect directly to Vout 1. An internal feed forward capacitor is connected between this pin and the error amplifier. In case of fixed output voltage versions or when the (See Datasheet)", 5 DEF_1 (in) "This pin defines the output voltage of converter 1. The pin acts either as analog input for output voltage setting via external resistors (TPS62400), or digital input to select between two fixed default output voltages (See Datasheet)", 6 SW1 (power) "Switch Pin of Converter1. Connect to Inductor", 7 EN1 (in) "Enable Input for Converter1, active high", 8 GND (power) "GND for both converters; connect this pin to the PowerPAD", 9 EN2 (in) "Enable Input for Converter 2, active high", 10 SW2 (power) "Switch Pin of Converter 2. Connect to Inductor.", 11 PP (power) "Connect to GND"

## TPS62404DRCT
designator U?
Buck Step Down Regulator with 2.5 to 6 V Input and 1.2 to 1.9 V Output, -40 to 85 degC, 10-Pin SON (DRC), Green (RoHS & no Sb/Br); PartNumber: TPS62404DRCT; Manufacturer: Texas Instruments; Duty Cycle(Max)(%): 100; Dynamic Voltage Scaling: TRUE; Iout(Max)(A): 0.4; Iout2(Max)(A): 0.6; Iq(Typ)(mA): 0.032; Rating: Catalog; Regulated Outputs(#): 2; SubFamily: Step-Down Regulator; Switch Current Limit(Typ)(A): 1; Vin(Max)(V): 6; Vin(Min)(V): 2.5; Vout(Max)(V): 1.9; Vout(Min)(V): 1.2; Vout2(Max)(V): 3.3; DatasheetVersion: SLVS681E; PackageVersion: revL, Sep-2011; PackageReference: DRC10-2400X1650TP; PackageDescription: 10-Pin Plastic Small Outline No-Lead, 3 x 3 x 1 mm Body, 0.5 mm Pitch, Exposed Pad; Supplier 1: Digi-Key; Supplier Part Number 1: TPS62404DRCT-ND; Supplier 2: Newark; Supplier Part Number 2: 79R8573; Supplier 3: Mouser; Supplier Part Number 3: 595-TPS62404DRCT; Eco-Plan: Green (RoHS & no Sb/Br); Synchronous Rectification: TRUE; Topology: Buck; Vout2(Min)(V): 3.3; Mounting Technology: Surface Mount; ComponentLink1Description: Datasheet; ComponentLink1URL: http://www.ti.com/general/docs/lit/getliterature.tsp?genericPartNumber=TPS62404&fileType=pdf; ComponentLink2Description: URL Link1; ComponentLink2URL: Samples URL:http://www.ti.com/product/tps54611#samples
footprint DRC10-2400X1650TP (SON, 10-Leads, Body 3x3mm, Pitch 0.5mm, Thermal Pad 2.4x1.65mm, TI Recommended)
pins: 1 ADJ2 "Input to adjust output voltage of converter 2. In adjustable version (TPS62400) connect a external resistor divider between VOUT2, this pin and GND to set output voltage between 0.6V and VIN. At fixed output voltage version (See Datasheet)", 2 MODE/DATA (io) "This Pin has 2 functions: 1. Operation Mode selection: With low level, Power Save Mode is enabled where the device operates in PFM mode at light loads and enters automatically PWM mode at heavy loads. Pulling this PIN to (See Datasheet)", 3 VIN (power) "Supply voltage, connect to VBAT, 2.5V to 6V", 4 FB1 "Direct feedback voltage sense input of converter 1, connect directly to Vout 1. An internal feed forward capacitor is connected between this pin and the error amplifier. In case of fixed output voltage versions or when the (See Datasheet)", 5 DEF_1 (in) "This pin defines the output voltage of converter 1. The pin acts either as analog input for output voltage setting via external resistors (TPS62400), or digital input to select between two fixed default output voltages (See Datasheet)", 6 SW1 (power) "Switch Pin of Converter1. Connect to Inductor", 7 EN1 (in) "Enable Input for Converter1, active high", 8 GND (power) "GND for both converters; connect this pin to the PowerPAD", 9 EN2 (in) "Enable Input for Converter 2, active high", 10 SW2 (power) "Switch Pin of Converter 2. Connect to Inductor.", 11 PP (power) "Connect to GND"

## TPS62410DRCR
designator U?
Buck Step Down Regulator with 2.5 to 6 V Input and 0.6 to 6 V Output, -40 to 85 degC, 10-Pin SON (DRC), Green (RoHS & no Sb/Br); PartNumber: TPS62410DRCR; Manufacturer: Texas Instruments; Duty Cycle(Max)(%): 100; Dynamic Voltage Scaling: TRUE; Iout(Max)(A): 0.8; Iq(Typ)(mA): 0.032; Rating: Catalog; Regulated Outputs(#): 2; SubFamily: Step-Down Regulator; Switch Current Limit(Typ)(A): 1; Vin(Max)(V): 6; Vin(Min)(V): 2.5; Vout(Min)(V): 0.6; DatasheetVersion: SLVS737; PackageVersion: revL, Sep-2011; PackageReference: DRC10-2400X1650TP; PackageDescription: 10-Pin Plastic Small Outline No-Lead, 3 x 3 x 1 mm Body, 0.5 mm Pitch, Exposed Pad; Supplier 1: Digi-Key; Supplier Part Number 1: 296-25488-2-ND; Supplier 2: Digi-Key; Supplier Part Number 2: 296-25488-1-ND; Supplier 3: Digi-Key; Supplier Part Number 3: 296-25488-6-ND; Supplier 4: Newark; Supplier Part Number 4: 34M0193; Supplier 5: Mouser; Supplier Part Number 5: 595-TPS62410DRCR; Eco-Plan: Green (RoHS & no Sb/Br); Iout2(Max)(A): 0.8; Synchronous Rectification: TRUE; Topology: Buck; Vout(Max)(V): 6; Vout2(Max)(V): 6; Vout2(Min)(V): 0.6; Mounting Technology: Surface Mount; ComponentLink1Description: Datasheet; ComponentLink1URL: http://www.ti.com/general/docs/lit/getliterature.tsp?genericPartNumber=TPS62410&fileType=pdf; ComponentLink2Description: URL Link1; ComponentLink2URL: Samples URL:http://www.ti.com/product/tps62410#samples
footprint DRC10-2400X1650TP (SON, 10-Leads, Body 3x3mm, Pitch 0.5mm, Thermal Pad 2.4x1.65mm, TI Recommended)
pins: 1 ADJ2 (in) "Input to adjust output voltage of converter 2. In adjustable version (TPS62410) connect a external resistor divider between VOUT2, this pin and GND to set output voltage between 0.6V and VIN. If EasyScale Interface is used (See Datasheet)", 2 MODE/DATA (io) "This Pin has 2 functions: 1. Operation Mode selection: With low level, Power Save Mode is enabled where the device operates in PFM mode at light loads and enters automatically PWM mode at heavy loads. Pulling this PIN to (See Datasheet)", 3 VIN (power) "Supply voltage, connect to VBAT, 2.5V to 6V", 4 FB1 (in) "Direct feedback voltage sense input of converter 1, connect directly to Vout 1. An internal feed forward capacitor is connected between this pin and the error amplifier. In case of fixed output voltage versions or when the (See Datasheet)", 5 DEF_1 (in) "This pin defines the output voltage of converter 1. The pin acts in TPS62410 as an analog input for output voltage setting via external resistors. In fixed default output voltage versions this pin is a digital input to (See Datasheet)", 6 SW1 (power) "Switch Pin of Converter1. Connected to Inductor 1", 7 EN1 (in) "Enable Input for Converter1, active high", 8 GND (power) "GND for both converters, this pin should be connected with the PowerPAD", 9 EN2 (in) "Enable Input for Converter 2, active high", 10 SW2 (power) "Switch Pin of Converter 2. Connect to Inductor.", 11 PP (power) "Connect to GND"

## TPS62410DRCRG4
designator U?
Buck Step Down Regulator with 2.5 to 6 V Input and 0.6 to 6 V Output, -40 to 85 degC, 10-Pin SON (DRC), Green (RoHS & no Sb/Br); PartNumber: TPS62410DRCRG4; Manufacturer: Texas Instruments; Duty Cycle(Max)(%): 100; Dynamic Voltage Scaling: TRUE; Iout(Max)(A): 0.8; Iq(Typ)(mA): 0.032; Rating: Catalog; Regulated Outputs(#): 2; SubFamily: Step-Down Regulator; Switch Current Limit(Typ)(A): 1; Vin(Max)(V): 6; Vin(Min)(V): 2.5; Vout(Min)(V): 0.6; DatasheetVersion: SLVS737; PackageVersion: revL, Sep-2011; PackageReference: DRC10-2400X1650TP; PackageDescription: 10-Pin Plastic Small Outline No-Lead, 3 x 3 x 1 mm Body, 0.5 mm Pitch, Exposed Pad; Supplier 1: Digi-Key; Supplier Part Number 1: TPS62410DRCRG4-ND; Supplier 2: Newark; Supplier Part Number 2: 34M0194; Supplier 3: Mouser; Supplier Part Number 3: 595-TPS62410DRCRG4; Eco-Plan: Green (RoHS & no Sb/Br); Iout2(Max)(A): 0.8; Synchronous Rectification: TRUE; Topology: Buck; Vout(Max)(V): 6; Vout2(Max)(V): 6; Vout2(Min)(V): 0.6; Mounting Technology: Surface Mount; ComponentLink1Description: Datasheet; ComponentLink1URL: http://www.ti.com/general/docs/lit/getliterature.tsp?genericPartNumber=TPS62410&fileType=pdf; ComponentLink2Description: URL Link1; ComponentLink2URL: Samples URL:http://www.ti.com/product/tps62410#samples
footprint DRC10-2400X1650TP (SON, 10-Leads, Body 3x3mm, Pitch 0.5mm, Thermal Pad 2.4x1.65mm, TI Recommended)
pins: 1 ADJ2 (in) "Input to adjust output voltage of converter 2. In adjustable version (TPS62410) connect a external resistor divider between VOUT2, this pin and GND to set output voltage between 0.6V and VIN. If EasyScale Interface is used (See Datasheet)", 2 MODE/DATA (io) "This Pin has 2 functions: 1. Operation Mode selection: With low level, Power Save Mode is enabled where the device operates in PFM mode at light loads and enters automatically PWM mode at heavy loads. Pulling this PIN to (See Datasheet)", 3 VIN (power) "Supply voltage, connect to VBAT, 2.5V to 6V", 4 FB1 (in) "Direct feedback voltage sense input of converter 1, connect directly to Vout 1. An internal feed forward capacitor is connected between this pin and the error amplifier. In case of fixed output voltage versions or when the (See Datasheet)", 5 DEF_1 (in) "This pin defines the output voltage of converter 1. The pin acts in TPS62410 as an analog input for output voltage setting via external resistors. In fixed default output voltage versions this pin is a digital input to (See Datasheet)", 6 SW1 (power) "Switch Pin of Converter1. Connected to Inductor 1", 7 EN1 (in) "Enable Input for Converter1, active high", 8 GND (power) "GND for both converters, this pin should be connected with the PowerPAD", 9 EN2 (in) "Enable Input for Converter 2, active high", 10 SW2 (power) "Switch Pin of Converter 2. Connect to Inductor.", 11 PP (power) "Connect to GND"

## TPS62410DRCT
designator U?
Buck Step Down Regulator with 2.5 to 6 V Input and 0.6 to 6 V Output, -40 to 85 degC, 10-Pin SON (DRC), Green (RoHS & no Sb/Br); PartNumber: TPS62410DRCT; Manufacturer: Texas Instruments; Duty Cycle(Max)(%): 100; Dynamic Voltage Scaling: TRUE; Iout(Max)(A): 0.8; Iq(Typ)(mA): 0.032; Rating: Catalog; Regulated Outputs(#): 2; SubFamily: Step-Down Regulator; Switch Current Limit(Typ)(A): 1; Vin(Max)(V): 6; Vin(Min)(V): 2.5; Vout(Min)(V): 0.6; DatasheetVersion: SLVS737; PackageVersion: revL, Sep-2011; PackageReference: DRC10-2400X1650TP; PackageDescription: 10-Pin Plastic Small Outline No-Lead, 3 x 3 x 1 mm Body, 0.5 mm Pitch, Exposed Pad; Supplier 1: Digi-Key; Supplier Part Number 1: 296-21647-2-ND; Supplier 2: Digi-Key; Supplier Part Number 2: 296-21647-1-ND; Supplier 3: Digi-Key; Supplier Part Number 3: 296-21647-6-ND; Supplier 4: Newark; Supplier Part Number 4: 34M0195; Supplier 5: Mouser; Supplier Part Number 5: 595-TPS62410DRCT; Eco-Plan: Green (RoHS & no Sb/Br); Iout2(Max)(A): 0.8; Synchronous Rectification: TRUE; Topology: Buck; Vout(Max)(V): 6; Vout2(Max)(V): 6; Vout2(Min)(V): 0.6; Mounting Technology: Surface Mount; ComponentLink1Description: Datasheet; ComponentLink1URL: http://www.ti.com/general/docs/lit/getliterature.tsp?genericPartNumber=TPS62410&fileType=pdf; ComponentLink2Description: URL Link1; ComponentLink2URL: Samples URL:http://www.ti.com/product/tps62410#samples
footprint DRC10-2400X1650TP (SON, 10-Leads, Body 3x3mm, Pitch 0.5mm, Thermal Pad 2.4x1.65mm, TI Recommended)
pins: 1 ADJ2 (in) "Input to adjust output voltage of converter 2. In adjustable version (TPS62410) connect a external resistor divider between VOUT2, this pin and GND to set output voltage between 0.6V and VIN. If EasyScale Interface is used (See Datasheet)", 2 MODE/DATA (io) "This Pin has 2 functions: 1. Operation Mode selection: With low level, Power Save Mode is enabled where the device operates in PFM mode at light loads and enters automatically PWM mode at heavy loads. Pulling this PIN to (See Datasheet)", 3 VIN (power) "Supply voltage, connect to VBAT, 2.5V to 6V", 4 FB1 (in) "Direct feedback voltage sense input of converter 1, connect directly to Vout 1. An internal feed forward capacitor is connected between this pin and the error amplifier. In case of fixed output voltage versions or when the (See Datasheet)", 5 DEF_1 (in) "This pin defines the output voltage of converter 1. The pin acts in TPS62410 as an analog input for output voltage setting via external resistors. In fixed default output voltage versions this pin is a digital input to (See Datasheet)", 6 SW1 (power) "Switch Pin of Converter1. Connected to Inductor 1", 7 EN1 (in) "Enable Input for Converter1, active high", 8 GND (power) "GND for both converters, this pin should be connected with the PowerPAD", 9 EN2 (in) "Enable Input for Converter 2, active high", 10 SW2 (power) "Switch Pin of Converter 2. Connect to Inductor.", 11 PP (power) "Connect to GND"